# Altium schematic symbol library KMR231NG.Schlib: 1 symbol
Pins are listed as number, name and electrical type; pins without a type are passive.

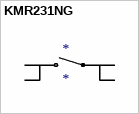
[diagram p0: symbol KMR231NG]

## KMR231NG
designator *
PB SW SM TOP
pins: 1, 2, 3, 4